# EAGLE library part MIC2253 (library common)
Boost Regulator
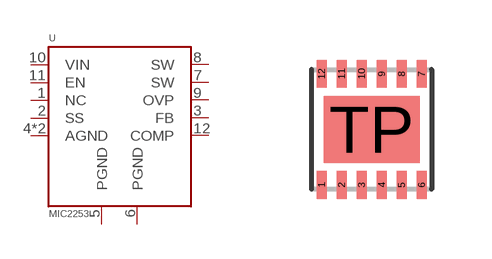
[diagram p32: symbol with the pads of MLF3X3; footprint MLF3X3]

Designator prefix U

## MIC2253  [MLF3X3]
1  NC
2  SS
3  FB
4  AGND
5  PGND
6  PGND
7  SW
8  SW
9  OVP
10  VIN
11  EN
12  COMP
TP  AGND

## Footprint MLF3X3 (pad centres in mm)
smd 0.25 x 0.7: 1 -1.25,-1.39; 2 -0.75,-1.39; 3 -0.25,-1.39; 4 0.25,-1.39; 5 0.75,-1.39; 6 1.25,-1.39; 7 1.25,1.39; 8 0.75,1.39; 9 0.25,1.39; 10 -0.25,1.39; 11 -0.75,1.39; 12 -1.25,1.39
smd 2.4 x 1.68: TP 0,0